# Altium footprint library MisPies.PcbLib: 27 footprints (part 1 of 2)
Each footprint in its own frame and in the unit in brackets; x right, y up, seen from the top. Pads: shape width x height; smd on the part's side, far side on the other; paste and mask are expansions set on the pad; w line width, h text height; cw(c..) or ccw(c..) is an arc to the next point about the centre after c.
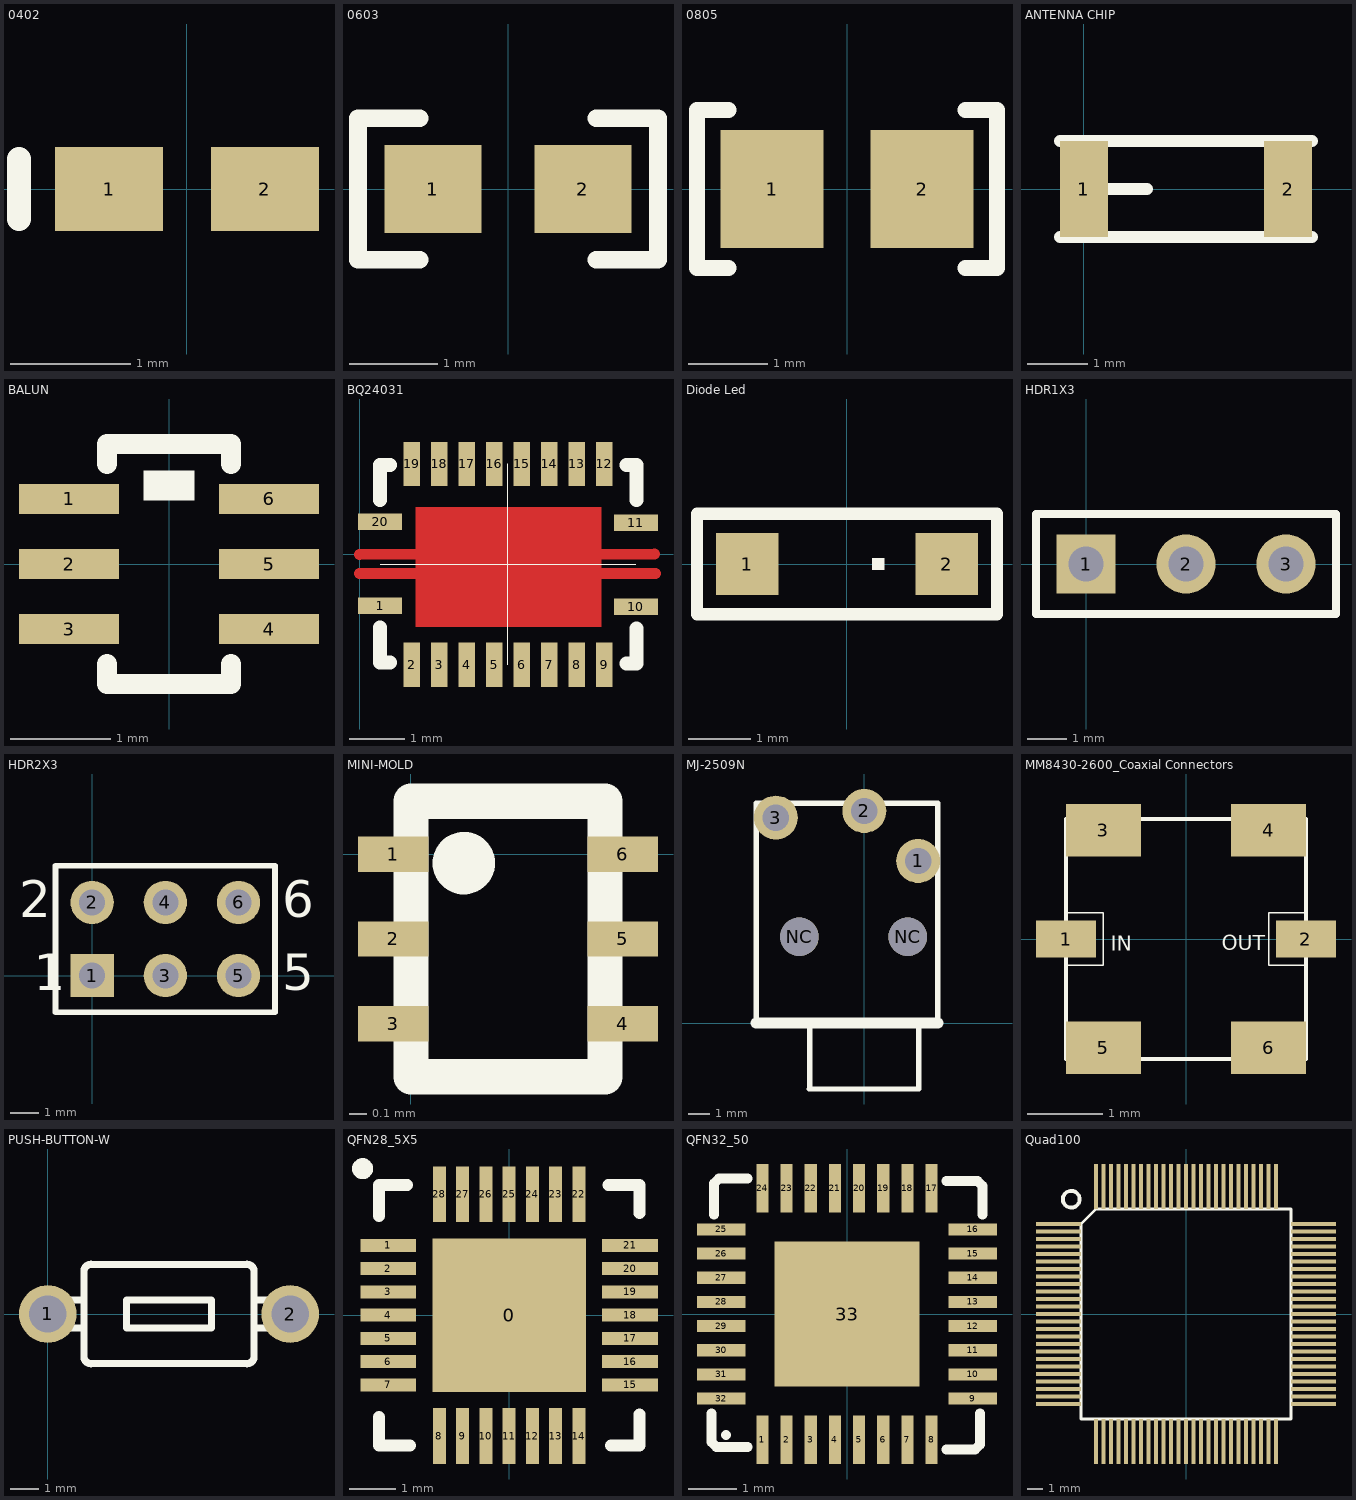
[diagram p0: the footprints below, top view; thin cyan lines are the x and y axes]

## 0402 [mm] "Chip Capacitor; Body 1.0 x 0.5 mm (LxW typ)"
height 1.35
pads (2):
  rect 0.9x0.7 smd: 1(-0.65,0) 2(0.65,0)
Top Overlay:
  lines w0.2: -1.4,-0.25 -1.4,0.25

## 0603 [mm]
pads (2):
  rect 1.1x1 smd: 1(-0.85,0) 2(0.85,0)
Top Overlay:
  lines w0.2: -1,-0.8 -1.7,-0.8 -1.7,0.8 -1,0.8 ; 1,-0.8 1.7,-0.8 1.7,0.8 1,0.8

## 0805 [mm] "Chip Resistor; Body 2.0 x 1.3 mm (LxW typ)"
height 0.65
pads (2):
  rect 1.3x1.5 smd: 1(-0.95,0) 2(0.95,0)
Top Overlay:
  lines w0.2: -1.5,-1 -1.9,-1 -1.9,1 -1.5,1 ; 1.5,-1 1.9,-1 1.9,1 1.5,1

## ANTENNA CHIP [mm] "ANTENNA CHIP 2.4GHZ"
height 1.3
pads (2):
  rect 0.8x1.6 smd: 1(0,0) 2(3.4,0)
Top Overlay:
  lines w0.2: -0.4,-0.8 3.8,-0.8 ; -0.4,0.8 3.8,0.8 ; 0.4,0 1.05,0

## BALUN [mm] "FILTER BALUN CER CHIP 2.4GHZ"
height 1.2
pads (6):
  rect 1x0.3 smd: 1(-1,0.65) 2(-1,0) 3(-1,-0.65) 4(1,-0.65) 5(1,0) 6(1,0.65)
Top Overlay:
  rectangle: -0.254,0.635 0.254,0.935
  lines w0.2: -0.62,-1 -0.62,-1.2 0.62,-1.2 0.62,-1 ; -0.62,1 -0.62,1.2 0.62,1.2 0.62,1

## BQ24031 [mm]
pads (20):
  rect 0.8x0.3 smd: 1(0.37,-0.93) 10(5.02,-0.955) 11(5.02,0.57) 20(0.37,0.595)
  rect 0.3x0.8 smd: 2(0.945,-2.005) 3(1.445,-2.005) 4(1.945,-2.005) 5(2.445,-2.005) 6(2.945,-2.005) 7(3.445,-2.005) 8(3.945,-2.005) 9(4.445,-2.005) 12(4.445,1.645) 13(3.945,1.645) 14(3.445,1.645) 15(2.945,1.645) 16(2.445,1.645) 17(1.945,1.645) 18(1.445,1.645) 19(0.945,1.645)
Top Layer:
  rectangle: 1.015,-1.315 4.39,0.865
  lines w0.2: 0,-0.35 5.375,-0.35 ; 0,0 5.355,0.005
Top Overlay:
  lines w0.01: 0.37,-0.18 5.02,-0.18 ; 2.695,-2.005 2.695,1.645
  lines w0.254: 0.37,-1.325 0.37,-1.965 0.55,-1.965 ; 0.37,0.985 0.37,1.625 0.55,1.625 ; 4.85,-1.985 5.03,-1.985 5.03,-1.345 ; 4.85,1.625 5.03,1.625 5.03,0.985
Top Solder:
  rectangle: 0.69,-2.5 4.7,2.15

## Diode Led [mm]
pads (2):
  rect 1x1 smd: 1(-1.6,0) 2(1.6,0)
Top Overlay:
  rectangle: 0.4,-0.1 0.6,0.1
  lines w0.2: -2.4,-0.8 2.4,-0.8 2.4,0.8 -2.4,0.8 -2.4,0 -2.4,-0.8

## HDR1X3 [mm] "Connector; Header; 3 Position"
pads (3):
  rect 1.5x1.5 hole 0.9: 1(0,0)
  round 1.5 hole 0.9: 2(2.54,0) 3(5.08,0)
Top Overlay:
  lines w0.2: -1.27,-1.27 6.35,-1.27 6.35,1.27 -1.27,1.27 -1.27,-1.27

## HDR2X3 [mm] "Connector; Header; 3x2 Position"
pads (6):
  rect 1.5x1.5 hole 0.9: 1(0,0)
  round 1.5 hole 0.9: 2(0,2.54) 3(2.54,0) 4(2.54,2.54) 5(5.08,0) 6(5.08,2.54)
Top Overlay:
  lines w0.2: 1.482,-1.27 6.35,-1.27 ; 6.35,-1.27 6.35,3.81 -1.27,3.81 -1.27,-1.27 6.35,-1.27
  text "6" at 6.604,2.032 h1.27
  text "5" at 6.604,-0.508 h1.27
  text "2" at -2.54,2.032 h1.27
  text "1" at -2.032,-0.508 h1.27

## MINI-MOLD [mm] "6-PIN LEAD-LESS MINIMOLD (1511)"
height 0.6
pads (6):
  rect 0.4x0.2 smd: 1(-0.1,0) 2(-0.1,-0.48) 3(-0.1,-0.96) 4(1.2,-0.96) 5(1.2,-0.48) 6(1.2,0)
Top Overlay:
  circle w0.254: c0.3,-0.05 r0.05
  lines w0.2: 0,-1.26 0,0.3 1.1,0.3 1.1,-1.26 0,-1.26

## MJ-2509N [mil] "CONN MONO JACK 2.5MM PCB MNT"
height 200
pads (5):
  round 80 hole 48: 1(98,295) 2(0,386) 3(-161,374)
  round 70 hole 70: NC(-118,157) NC(79,157)
Top Overlay:
  lines w10: -197,0 -197,400 134,400 134,0 ; -100,-120 99,-120 99,0 ; -99,-120 -99,0
  lines w20: -197,0 134,0

## MM8430-2600_Coaxial Connectors [mm]
pads (6):
  rect 0.8x0.5 smd: 1(-1.6,0) 2(1.6,0)
  rect 1x0.7 smd: 3(-1.1,1.45) 4(1.1,1.45) 5(-1.102,-1.45) 6(1.1,-1.45)
Top Overlay:
  lines w0.02: -1.6,-0.35 -1.1,-0.35 -1.1,0.35 -1.6,0.35 ; 1.6,-0.35 1.1,-0.35 1.1,0.35 1.6,0.35
  lines w0.05: -1.6,-1.6 -1.6,1.6 1.6,1.6 1.6,-1.6 -1.6,-1.6
  text "OUT" at 0.473,-0.151 h0.2
  text "IN" at -1.002,-0.157 h0.2

## PUSH-BUTTON-W [mil] "SWITCH TACT 6X3.5MM H=4.3MM"
height 169.29
pads (2):
  round 80 hole 52: 1(0,0) 2(336.22,0)
Top Overlay:
  lines w9.84: 48.03,-19.68 0,-19.68 0,19.68 50,19.68 ; 50,-59.06 50,59.06 ; 59.84,-68.9 276.38,-68.9 ; 59.84,68.9 276.38,68.9 ; 286.22,-59.06 286.22,59.06 ; 286.22,-19.68 336.22,-19.68 336.22,19.69 288.19,19.69 ; 109.06,-19.68 227.17,-19.68 227.17,19.68 109.06,19.68 109.06,-19.68
  lines w10: 50,-59.06 ccw(c59.84,-59.06) 59.84,-68.9 ; 50,59.06 cw(c59.84,59.06) 59.84,68.9 ; 276.38,-68.9 ccw(c276.38,-59.06) 286.22,-59.06 ; 276.38,68.9 cw(c276.38,59.06) 286.22,59.06

## QFN28_5X5 [mm] "QFN para SiLab CP2102"
height 0.9
pads (29):
  rect 3.3x3.3 smd: 0(0,0)
  rect 1.2x0.28 smd: 1(-2.6,1.5) 2(-2.6,1) 3(-2.6,0.5) 4(-2.6,0) 5(-2.6,-0.5) 6(-2.6,-1) 7(-2.6,-1.5) 15(2.6,-1.5) 16(2.6,-1) 17(2.6,-0.5) 18(2.6,0) 19(2.6,0.5) 20(2.6,1) 21(2.6,1.5)
  rect 0.28x1.2 smd: 8(-1.5,-2.6) 9(-1,-2.6) 10(-0.5,-2.6) 11(0,-2.6) 12(0.5,-2.6) 13(1,-2.6) 14(1.5,-2.6) 22(1.5,2.6) 23(1,2.6) 24(0.5,2.6) 25(0,2.6) 26(-0.5,2.6) 27(-1,2.6) 28(-1.5,2.6)
Top Overlay:
  circle w0.254: c-3.15,3.15 r0.1
  lines w0.254: -2.8,-2.19 -2.8,-2.8 -2.13,-2.8 ; -2.8,2.13 -2.8,2.8 -2.19,2.8 ; 2.13,2.8 2.8,2.8 2.8,2.19 ; 2.19,-2.8 2.8,-2.8 2.8,-2.13
Top Solder:
  rectangle: -2.5,-2.5 2.5,2.5

## QFN32_50 [mm] "QFN32"
height 1.016
pads (33):
  rect 0.25x1 smd: 1(-1.75,-2.6) 2(-1.25,-2.6) 3(-0.75,-2.6) 4(-0.25,-2.6) 5(0.25,-2.6) 6(0.75,-2.6) 7(1.25,-2.6) 8(1.75,-2.6) 17(1.75,2.6) 18(1.25,2.6) 19(0.75,2.6) 20(0.25,2.6) 21(-0.25,2.6) 22(-0.75,2.6) 23(-1.25,2.6) 24(-1.75,2.6)
  rect 1x0.25 smd: 9(2.6,-1.75) 10(2.6,-1.25) 11(2.6,-0.75) 12(2.6,-0.25) 13(2.6,0.25) 14(2.6,0.75) 15(2.6,1.25) 16(2.6,1.75) 25(-2.6,1.75) 26(-2.6,1.25) 27(-2.6,0.75) 28(-2.6,0.25) 29(-2.6,-0.25) 30(-2.6,-0.75) 31(-2.6,-1.25) 32(-2.6,-1.75)
  rect 3x3 smd: 33(0,0)
Top Overlay:
  lines w0.2: -2.8,-2.05 -2.8,-2.65 -2.7,-2.75 -2.05,-2.75 ; -2.75,2.05 -2.75,2.7 -2.65,2.8 -2.05,2.8 ; 2.05,-2.8 2.65,-2.8 2.75,-2.7 2.75,-2.05 ; 2.05,2.75 2.7,2.75 2.8,2.65 2.8,2.05 ; -2.5,-2.5 -2.5,-2.5
Top Solder:
  rectangle: -2.45,-2.45 2.45,2.45

## Quad100 [mm]
pads (100):
  rect 3x0.25 smd: 1(-8.5,6) 2(-8.5,5.5) 3(-8.5,5) 4(-8.5,4.5) 5(-8.5,4) 6(-8.5,3.5) 7(-8.5,3) 8(-8.5,2.5) 9(-8.5,2) 10(-8.5,1.5) 11(-8.5,1) 12(-8.5,0.5) 13(-8.5,0) 14(-8.5,-0.5) 15(-8.5,-1) 16(-8.5,-1.5) 17(-8.5,-2) 18(-8.5,-2.5) 19(-8.5,-3) 20(-8.5,-3.5) 21(-8.5,-4) 22(-8.5,-4.5) 23(-8.5,-5) 24(-8.5,-5.5) 25(-8.5,-6) 51(8.5,-6) 52(8.5,-5.5) 53(8.5,-5) 54(8.5,-4.5) 55(8.5,-4) 56(8.5,-3.5) 57(8.5,-3) 58(8.5,-2.5) 59(8.5,-2) 60(8.5,-1.5) 61(8.5,-1) 62(8.5,-0.5) 63(8.5,0) 64(8.5,0.5) 65(8.5,1) 66(8.5,1.5) 67(8.5,2) 68(8.5,2.5) 69(8.5,3) 70(8.5,3.5) 71(8.5,4) 72(8.5,4.5) 73(8.5,5) 74(8.5,5.5) 75(8.5,6)
  rect 0.25x3 smd: 26(-6,-8.5) 27(-5.5,-8.5) 28(-5,-8.5) 29(-4.5,-8.5) 30(-4,-8.5) 31(-3.5,-8.5) 32(-3,-8.5) 33(-2.5,-8.5) 34(-2,-8.5) 35(-1.5,-8.5) 36(-1,-8.5) 37(-0.5,-8.5) 38(0,-8.5) 39(0.5,-8.5) 40(1,-8.5) 41(1.5,-8.5) 42(2,-8.5) 43(2.5,-8.5) 44(3,-8.5) 45(3.5,-8.5) 46(4,-8.5) 47(4.5,-8.5) 48(5,-8.5) 49(5.5,-8.5) 50(6,-8.5) 76(6,8.5) 77(5.5,8.5) 78(5,8.5) 79(4.5,8.5) 80(4,8.5) 81(3.5,8.5) 82(3,8.5) 83(2.5,8.5) 84(2,8.5) 85(1.5,8.5) 86(1,8.5) 87(0.5,8.5) 88(0,8.5) 89(-0.5,8.5) 90(-1,8.5) 91(-1.5,8.5) 92(-2,8.5) 93(-2.5,8.5) 94(-3,8.5) 95(-3.5,8.5) 96(-4,8.5) 97(-4.5,8.5) 98(-5,8.5) 99(-5.5,8.5) 100(-6,8.5)
Top Overlay:
  circle w0.254: c-7.65,7.65 r0.559
  lines w0.2: -7,-7 -7,6 -6,7 7,7 7,-7 -7,-7